# EAGLE library part STM6600 (library pepin)
Smart Switch
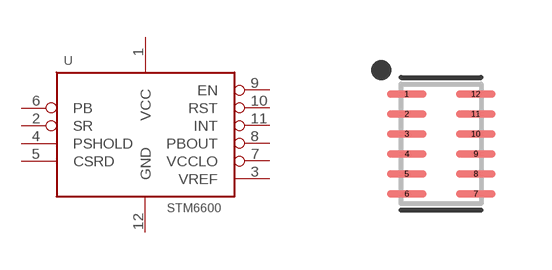
[diagram p28: symbol with the pads of SON50P200X300X70-12N; footprint SON50P200X300X70-12N]

Designator prefix U

## STM6600TDFN12  [SON50P200X300X70-12N]
1  VCC  pwr
2  SR
3  VREF
4  PSHOLD
5  CSRD
6  PB
7  VCCLO
8  PBOUT
9  EN
10  RST
11  INT
12  GND  pwr

## Footprint SON50P200X300X70-12N (pad centres in mm)
12-SON (DFN), 0.50 mm pitch, 3.00 X 2.00 X 0.70 mm body 12-pin SON (DFN) package with 0.50 mm pitch with body size 3.00 X 2.00 X 0.70 mm
smd 0.987 x 0.193: 1 -0.862,1.25; 2 -0.862,0.75; 3 -0.862,0.25; 4 -0.862,-0.25; 5 -0.862,-0.75; 6 -0.862,-1.25; 7 0.862,-1.25; 8 0.862,-0.75; 9 0.862,-0.25; 10 0.862,0.25; 11 0.862,0.75; 12 0.862,1.25